# Altium footprint library capacitor_smd.PcbLib: 120 footprints (part 3 of 8)
Each footprint in its own frame and in the unit in brackets; x right, y up, seen from the top. Pads: shape width x height; smd on the part's side, far side on the other; paste and mask are expansions set on the pad; w line width, h text height; cw(c..) or ccw(c..) is an arc to the next point about the centre after c.
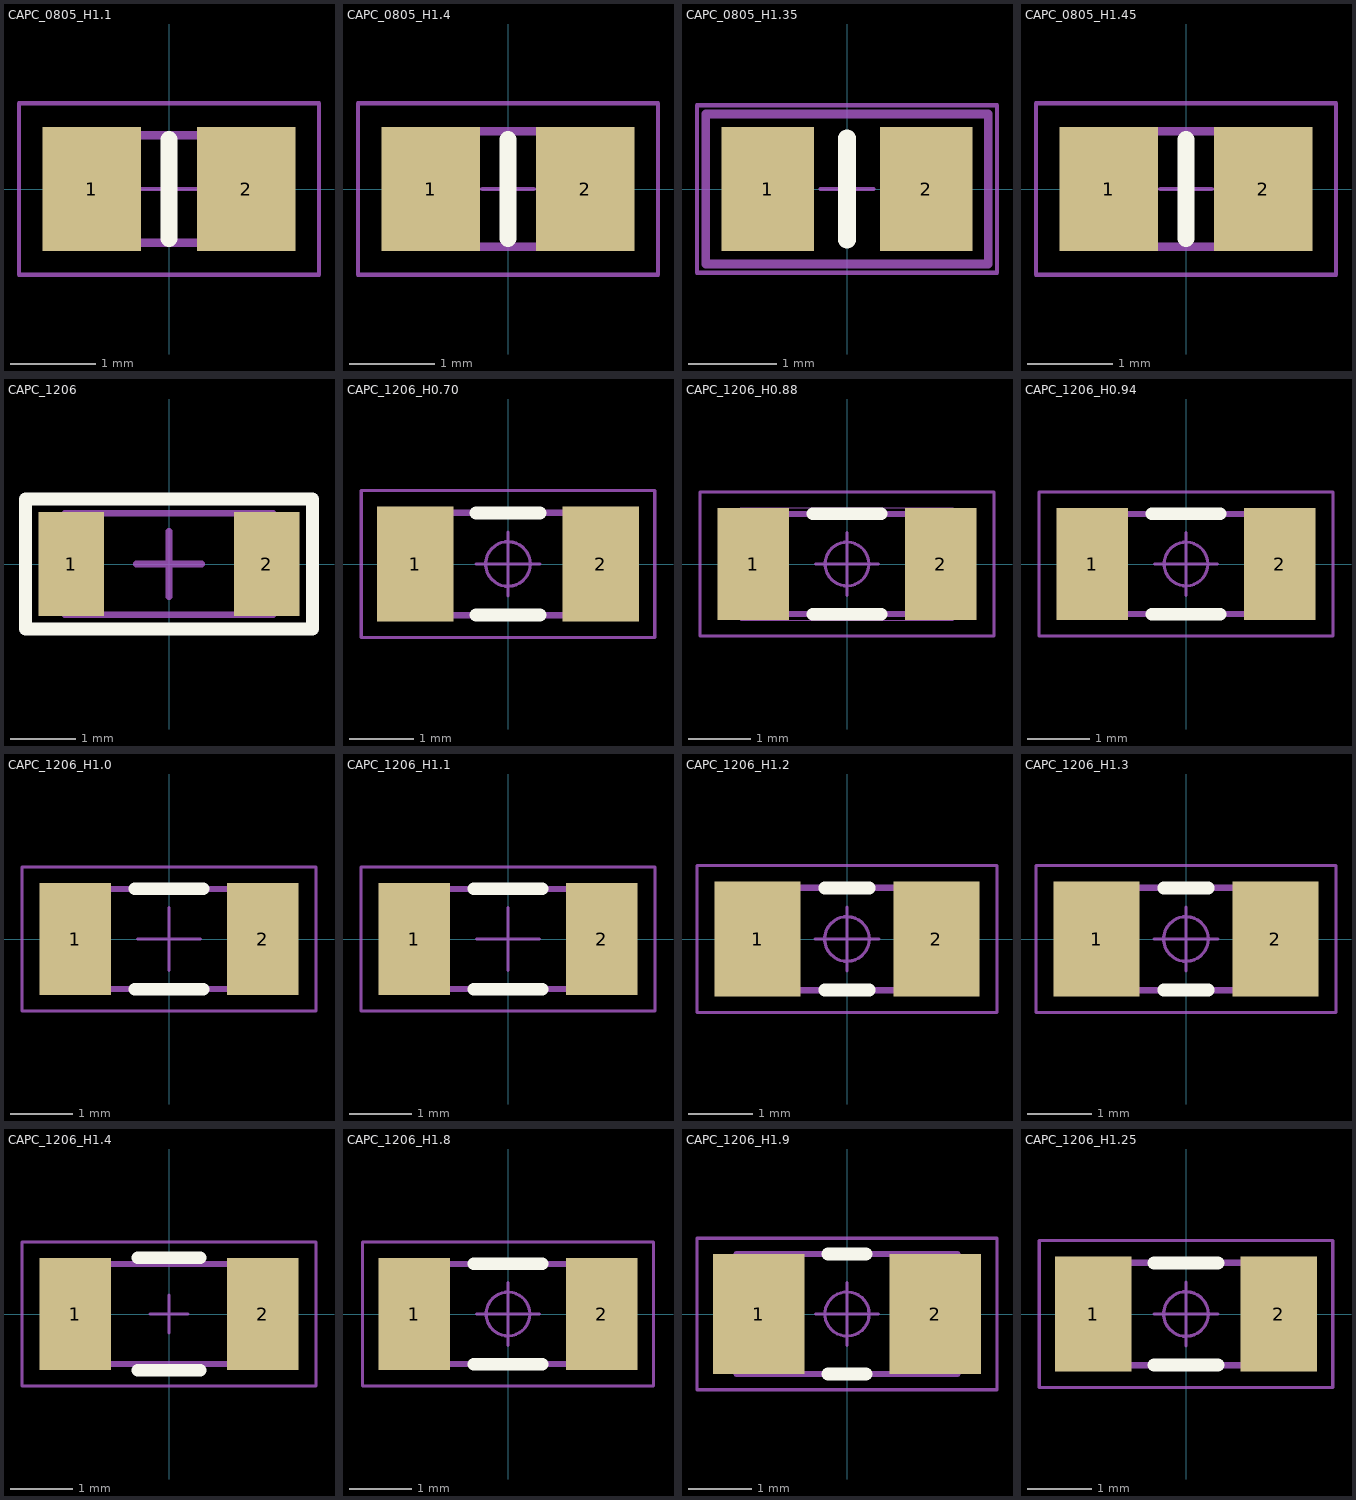
[diagram p2: the footprints below, top view; thin cyan lines are the x and y axes]

## CAPC_0805_H1.1 [mm] "Chip Capacitor, Body 2.0x1.25mm, IPC Medium Density"
height 1.1
pads (2):
  rect 1.15x1.45 smd: 1(-0.9,0) 2(0.9,0)
Top Overlay:
  lines w0.2: 0,-0.575 0,0.575
Mechanical 1:
  lines w0.1: -1,-0.625 -1,0.625 1,0.625 1,-0.625 -1,-0.625
Mechanical 15:
  lines w0.05: -0.5,0 0.5,0 ; 0,-0.5 0,0.5 ; -1.75,-1 -1.75,1 1.75,1 1.75,-1 -1.75,-1
3D body "CAPC2012X110N.stp": height 1.1, standoff 0, extent -1.05,-0.675 1.05,0.675

## CAPC_0805_H1.4 [mm] "Chip Capacitor, Body 2.0x1.25mm, IPC Medium Density"
height 1.4
pads (2):
  rect 1.15x1.45 smd: 1(-0.9,0) 2(0.9,0)
Top Overlay:
  lines w0.2: 0,-0.575 0,0.575
Mechanical 1:
  lines w0.1: -1.05,-0.675 -1.05,0.675 1.05,0.675 1.05,-0.675 -1.05,-0.675
Mechanical 15:
  lines w0.05: -0.3,0 0.3,0 ; 0,-0.3 0,0.3 ; -1.75,-1 -1.75,1 1.75,1 1.75,-1 -1.75,-1
3D body "CAPC2012X140N.stp": height 1.3, standoff 0, extent -1.05,-0.675 1.05,0.675

## CAPC_0805_H1.35 [mm] "Chip Capacitor, Body 2.0x1.25mm, IPC Medium Density"
height 1.35
pads (2):
  rect 1.05x1.4 smd: 1(-0.9,0) 2(0.9,0)
Top Overlay:
  lines w0.2: 0,-0.575 0,0.575
Mechanical 1:
  lines w0.1: -1.6,-0.85 1.6,-0.85 1.6,0.85 -1.6,0.85 -1.6,-0.85
Mechanical 15:
  lines w0.05: -0.3,0 0.3,0 ; 0,-0.3 0,0.3 ; -1.7,-0.95 1.7,-0.95 1.7,0.95 -1.7,0.95 -1.7,-0.95
3D body "CAPC2012X135N.stp": height 1.25, standoff 0, extent -1.05,-0.675 1.05,0.675

## CAPC_0805_H1.45 [mm] "Chip Capacitor, Body 2.0x1.45mm, IPC Medium Density"
height 1.45
pads (2):
  rect 1.15x1.45 smd: 1(-0.9,0) 2(0.9,0)
Top Overlay:
  lines w0.2: 0,-0.575 0,0.575
Mechanical 1:
  lines w0.1: -1.05,-0.675 -1.05,0.675 1.05,0.675 1.05,-0.675 -1.05,-0.675
Mechanical 15:
  lines w0.05: -0.3,0 0.3,0 ; 0,-0.3 0,0.3 ; -1.75,-1 -1.75,1 1.75,1 1.75,-1 -1.75,-1
3D body "CAPC2012X145N.stp": height 1.45, standoff 0, extent -1.05,-0.675 1.05,0.675

## CAPC_1206 [mm]
height 0.6
pads (2):
  rect 1x1.6 smd: 1(-1.5,0) 2(1.5,0)
Top Overlay:
  lines w0.2: -2.2,-1 2.2,-1 2.2,1 -2.2,1 -2.2,-1
Mechanical 1:
  lines w0.1: -1.6,-0.775 1.6,-0.775 1.6,0.775 -1.6,0.775 -1.6,-0.775
Mechanical 15:
  lines w0.1: -0.5,0 0.5,0 ; 0,-0.5 0,0.5 ; -2.2,-1 -2.2,1 2.2,1 2.2,-1 -2.2,-1
3D body "SW3dPS-1206 SMD Capacitor.STEP": height 1, standoff 0, extent -1.6,-0.8 1.6,0.8

## CAPC_1206_H0.70 [mm] "Chip Capacitor, Body 3.2x1.6mm, IPC Medium Density"
height 0.7
pads (2):
  rect 1.2x1.8 smd: 1(-1.45,0) 2(1.45,0)
Top Overlay:
  lines w0.2: -0.5,-0.8 0.5,-0.8 ; -0.5,0.8 0.5,0.8
Mechanical 1:
  lines w0.1: -1.6,-0.8 -1.6,0.8 1.6,0.8 1.6,-0.8 -1.6,-0.8
Mechanical 15:
  circle w0.05: c0,0 r0.35
  lines w0.05: -0.5,0 0.5,0 ; 0,-0.5 0,0.5 ; -2.3,-1.15 -2.3,1.15 2.3,1.15 2.3,-1.15 -2.3,-1.15
3D body "CAPC3216X70N.stp": height 0.7, standoff 0, extent -1.7,-0.9 1.7,0.9

## CAPC_1206_H0.88 [mm] "Chip Capacitor, Body 3.2x1.6mm, IPC Medium Density"
height 0.88
pads (2):
  rect 1.15x1.8 smd: 1(-1.5,0) 2(1.5,0)
Top Overlay:
  lines w0.2: -0.55,-0.8 0.55,-0.8 ; -0.55,0.8 0.55,0.8
Mechanical 1:
  lines w0.1: -1.6,-0.8 -1.6,0.8 1.6,0.8 1.6,-0.8 -1.6,-0.8
Mechanical 8:
  lines w0.001: -1.7,-0.9 -1.7,0.9 1.7,0.9 1.7,-0.9 -1.7,-0.9
Mechanical 15:
  circle w0.05: c0,0 r0.35
  lines w0.05: -0.5,0 0.5,0 ; 0,-0.5 0,0.5 ; -2.35,-1.15 -2.35,1.15 2.35,1.15 2.35,-1.15 -2.35,-1.15
3D body "CAPC3216X88N.stp": height 0.88, standoff 0, extent -1.7,-0.9 1.7,0.9

## CAPC_1206_H0.94 [mm] "Chip Capacitor, Body 3.2x1.6mm, IPC Medium Density"
height 0.94
pads (2):
  rect 1.15x1.8 smd: 1(-1.5,0) 2(1.5,0)
Top Overlay:
  lines w0.2: -0.55,-0.8 0.55,-0.8 ; -0.55,0.8 0.55,0.8
Mechanical 1:
  lines w0.1: -1.6,-0.8 -1.6,0.8 1.6,0.8 1.6,-0.8 -1.6,-0.8
Mechanical 15:
  circle w0.05: c0,0 r0.35
  lines w0.05: -0.5,0 0.5,0 ; 0,-0.5 0,0.5 ; -2.35,-1.15 -2.35,1.15 2.35,1.15 2.35,-1.15 -2.35,-1.15
3D body "CAPC3216X94N.stp": height 0.94, standoff 0, extent -1.7,-0.9 1.7,0.9

## CAPC_1206_H1.0 [mm] "Chip Capacitor, Body 3.2x1.6mm, IPC Medium Density"
height 1
pads (2):
  rect 1.15x1.8 smd: 1(-1.5,0) 2(1.5,0)
Top Overlay:
  lines w0.2: -0.55,-0.8 0.55,-0.8 ; -0.55,0.8 0.55,0.8
Mechanical 1:
  lines w0.1: -1.6,-0.8 -1.6,0.8 1.6,0.8 1.6,-0.8 -1.6,-0.8
Mechanical 15:
  lines w0.05: -0.5,0 0.5,0 ; 0,-0.5 0,0.5 ; -2.35,-1.15 -2.35,1.15 2.35,1.15 2.35,-1.15 -2.35,-1.15
3D body "CAPC3216X94N.stp": height 0.94, standoff 0, extent -1.7,-0.9 1.7,0.9

## CAPC_1206_H1.1 [mm] "Chip Capacitor, Body 3.2x1.6mm, IPC Medium Density"
height 1.1
pads (2):
  rect 1.15x1.8 smd: 1(-1.5,0) 2(1.5,0)
Top Overlay:
  lines w0.2: -0.55,-0.8 0.55,-0.8 ; -0.55,0.8 0.55,0.8
Mechanical 1:
  lines w0.1: -1.6,-0.8 1.6,-0.8 1.6,0.8 -1.6,0.8 -1.6,-0.8
Mechanical 15:
  lines w0.05: -0.5,0 0.5,0 ; 0,-0.5 0,0.5 ; -2.35,-1.15 2.35,-1.15 2.35,1.15 -2.35,1.15 -2.35,-1.15
3D body "CAPC3216X94N.stp": height 0.94, standoff 0, extent -1.7,-0.9 1.7,0.9

## CAPC_1206_H1.2 [mm] "Chip Capacitor, Body 3.2x1.6mm, IPC Medium Density"
height 1.1
pads (2):
  rect 1.35x1.8 smd: 1(-1.4,0) 2(1.4,0)
Top Overlay:
  lines w0.2: -0.35,-0.8 0.35,-0.8 ; -0.35,0.8 0.35,0.8
Mechanical 1:
  lines w0.1: -1.6,-0.8 1.6,-0.8 1.6,0.8 -1.6,0.8 -1.6,-0.8
Mechanical 15:
  circle w0.05: c0,0 r0.35
  lines w0.05: -0.5,0 0.5,0 ; 0,-0.5 0,0.5 ; -2.35,-1.15 2.35,-1.15 2.35,1.15 -2.35,1.15 -2.35,-1.15
3D body "CAPC3216X110N.stp": height 1.1, standoff 0, extent -1.7,-0.9 1.7,0.9

## CAPC_1206_H1.3 [mm] "Chip Capacitor, Body 3.2x1.6mm, IPC Medium Density"
height 1.3
pads (2):
  rect 1.35x1.8 smd: 1(-1.4,0) 2(1.4,0)
Top Overlay:
  lines w0.2: -0.35,-0.8 0.35,-0.8 ; -0.35,0.8 0.35,0.8
Mechanical 1:
  lines w0.1: -1.6,-0.8 -1.6,0.8 1.6,0.8 1.6,-0.8 -1.6,-0.8
Mechanical 15:
  circle w0.05: c0,0 r0.35
  lines w0.05: -0.5,0 0.5,0 ; 0,-0.5 0,0.5 ; -2.35,-1.15 -2.35,1.15 2.35,1.15 2.35,-1.15 -2.35,-1.15
3D body "CAPC3216X130N.stp": height 1.3, standoff 0, extent -1.7,-0.9 1.7,0.9

## CAPC_1206_H1.4 [mm] "Chip Capacitor, Body 3.2x1.6mm, IPC Medium Density"
height 1.4
pads (2):
  rect 1.15x1.8 smd: 1(-1.5,0) 2(1.5,0)
Top Overlay:
  lines w0.2: -0.5,-0.9 0.5,-0.9 ; -0.5,0.9 0.5,0.9
Mechanical 1:
  lines w0.1: -1.6,-0.8 1.6,-0.8 1.6,0.8 -1.6,0.8 -1.6,-0.8
Mechanical 15:
  lines w0.05: -0.3,0 0.3,0 ; 0,-0.3 0,0.3 ; -2.35,-1.15 -2.35,1.15 2.35,1.15 2.35,-1.15 -2.35,-1.15
3D body "CAPC3216X140N.stp": height 1.4, standoff 0, extent -1.7,-0.9 1.7,0.9

## CAPC_1206_H1.8 [mm] "Chip Capacitor, Body 3.2x1.6mm, IPC Medium Density"
height 1.8
pads (2):
  rect 1.15x1.8 smd: 1(-1.5,0) 2(1.5,0)
Top Overlay:
  lines w0.2: -0.55,-0.8 0.55,-0.8 ; -0.55,0.8 0.55,0.8
Mechanical 1:
  lines w0.1: -1.6,-0.8 -1.6,0.8 1.6,0.8 1.6,-0.8 -1.6,-0.8
Mechanical 15:
  circle w0.05: c0,0 r0.35
  lines w0.05: -0.5,0 0.5,0 ; 0,-0.5 0,0.5 ; -2.325,-1.15 -2.325,1.15 2.325,1.15 2.325,-1.15 -2.325,-1.15
3D body "CAPC3216X180N.stp": height 1.8, standoff 0, extent -1.7,-0.9 1.7,0.9

## CAPC_1206_H1.9 [mm] "Chip Capacitor, Body 3.2x1.6mm, IPC Medium Density"
height 1.9
pads (2):
  rect 1.45x1.9 smd: 1(-1.4,0) 2(1.4,0)
Top Overlay:
  lines w0.2: -0.3,-0.95 0.3,-0.95 ; -0.3,0.95 0.3,0.95
Mechanical 1:
  lines w0.1: -1.75,-0.95 -1.75,0.95 1.75,0.95 1.75,-0.95 -1.75,-0.95
Mechanical 15:
  circle w0.05: c0,0 r0.35
  lines w0.05: -0.5,0 0.5,0 ; 0,-0.5 0,0.5 ; -2.375,-1.2 -2.375,1.2 2.375,1.2 2.375,-1.2 -2.375,-1.2
3D body "CAPC3216X190N.stp": height 1.9, standoff 0, extent -1.75,-0.95 1.75,0.95

## CAPC_1206_H1.25 [mm] "Capacitor, Non-Polarized, Chip; 3.20mm L X 1.60mm W X 1.25mm H, IPC Medium Density"
height 1.25
pads (2):
  rect 1.2x1.8 smd: 1(-1.45,0) 2(1.45,0)
Top Overlay:
  lines w0.2: -0.5,-0.8 0.5,-0.8 ; -0.5,0.8 0.5,0.8
Mechanical 1:
  lines w0.1: -1.6,-0.8 -1.6,0.8 1.6,0.8 1.6,-0.8 -1.6,-0.8
Mechanical 15:
  circle w0.05: c0,0 r0.35
  lines w0.05: -0.5,0 0.5,0 ; 0,-0.5 0,0.5 ; -2.3,-1.15 -2.3,1.15 2.3,1.15 2.3,-1.15 -2.3,-1.15
3D body "CAPC3216X125N.stp": height 1.25, standoff 0, extent -1.7,-0.9 1.7,0.9